# Altium footprint library PartsLib.PcbLib: 49 footprints (part 3 of 4)
Each footprint in its own frame and in the unit in brackets; x right, y up, seen from the top. Pads: shape width x height; smd on the part's side, far side on the other; paste and mask are expansions set on the pad; w line width, h text height; cw(c..) or ccw(c..) is an arc to the next point about the centre after c.
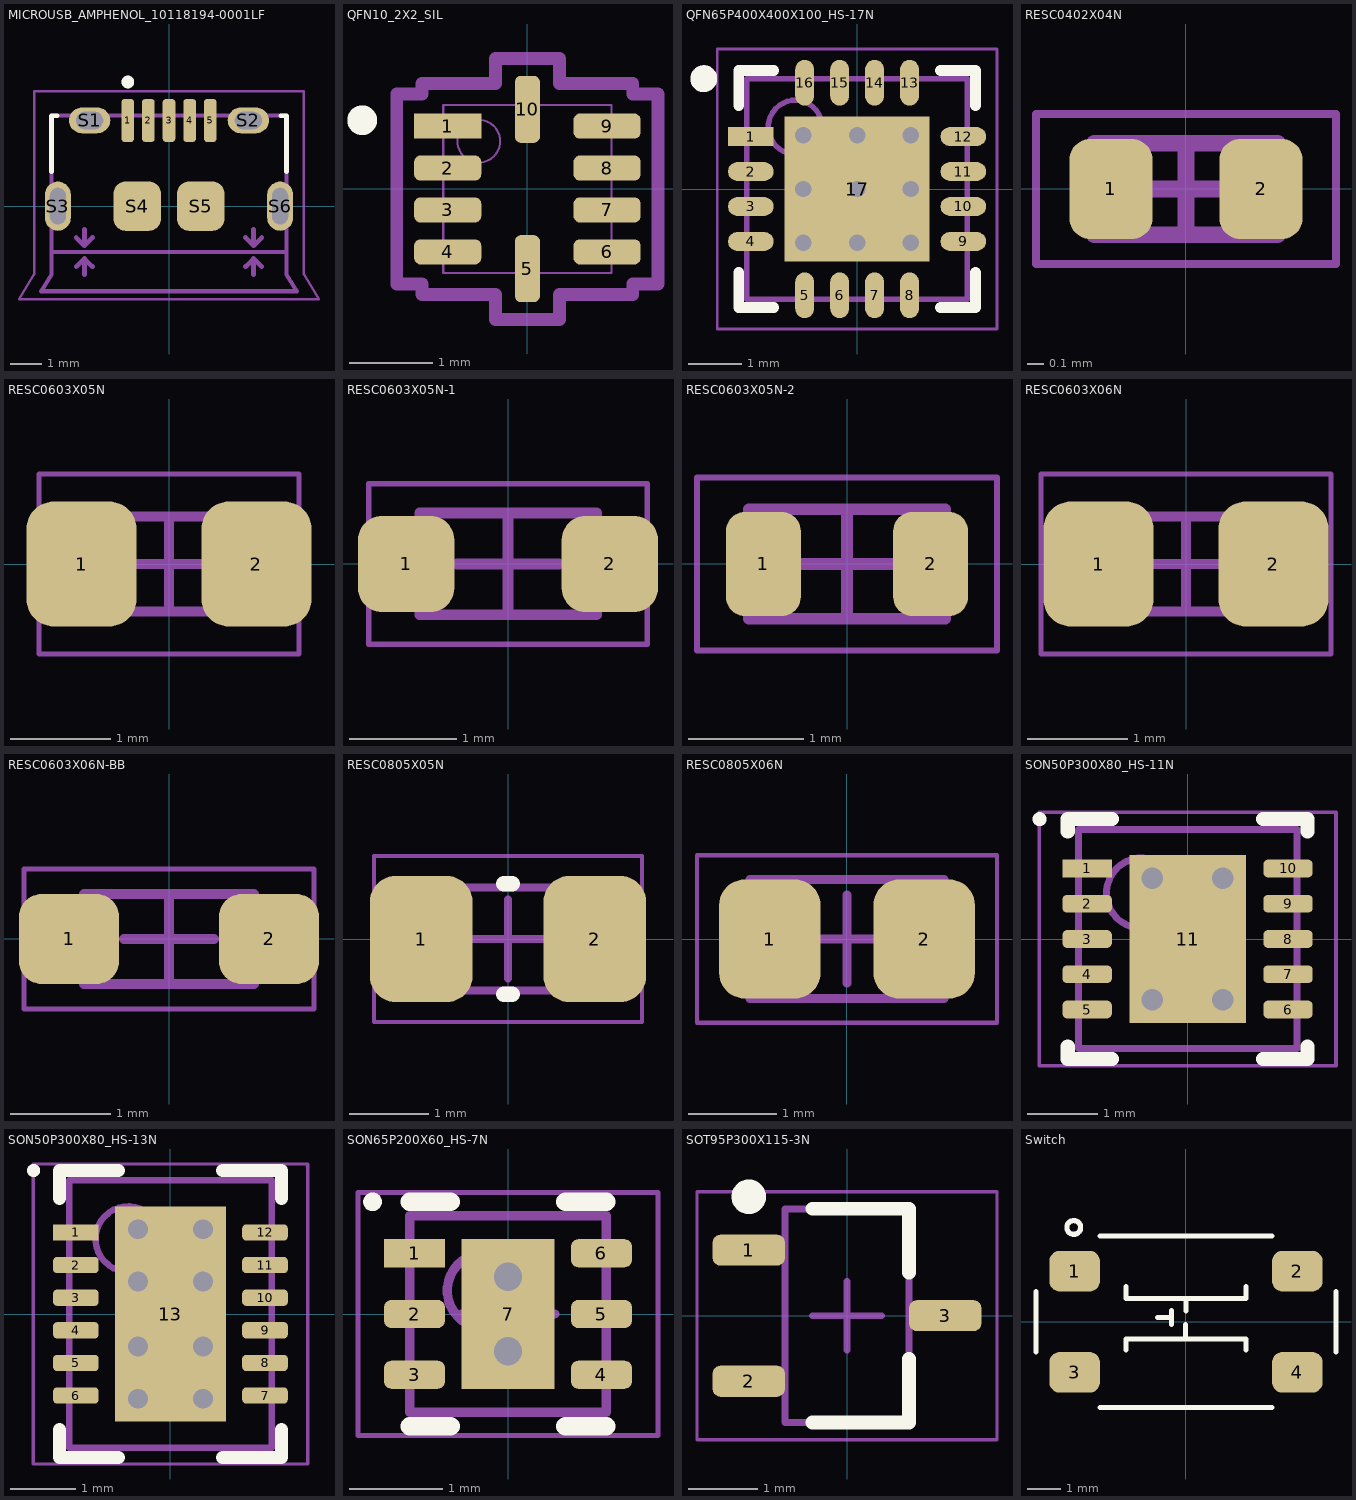
[diagram p2: the footprints below, top view; thin cyan lines are the x and y axes]

## MICROUSB_AMPHENOL_10118194-0001LF [mm]
pads (11):
  rrect50% 0.4x1.35 smd: 1(-1.3,2.7) 2(-0.65,2.7) 3(0,2.7) 4(0.65,2.7) 5(1.3,2.7)
  oval 1.3x0.813 hole 0.55 slot 0.85 at 0 deg: S1(-2.5,2.7) S2(2.5,2.7)
  oval 0.813x1.55 hole 0.5 slot 1.15 at 90 deg: S3(-3.5,0) S6(3.5,0)
  rrect50% 1.5x1.55 smd: S4(-1,0) S5(1,0)
Top Overlay:
  circle w0.2: c-1.295,3.912 r0.1
  lines w0.152: -3.7,1.095 -3.7,2.85 -3.52,2.85 ; 3.52,2.85 3.7,2.85 3.7,1.095
Top Paste:
  lines w0: -3.5,0.6 -3.5,0.77 ; 3.5,-0.77 3.5,-0.6
Mechanical 13:
  circle w0.2: c-1.295,3.912 r0.1
  lines w0.127: -3.7,-1.45 -3.7,2.85 3.7,2.85 3.7,-1.45 ; -3.7,-1.45 -3.7,-2.15 -4.025,-2.68 4.025,-2.68 3.7,-2.15 3.7,-1.45 ; -3.7,-1.45 3.7,-1.45
  lines w0.152: -2.921,-1.905 -2.667,-1.651 ; -2.921,-0.991 -2.667,-1.245 ; -2.667,-2.159 -2.667,-1.651 ; -2.667,-0.737 -2.667,-1.245 ; -2.413,-1.905 -2.667,-1.651 ; -2.413,-0.991 -2.667,-1.245 ; 2.413,-1.905 2.667,-1.651 ; 2.413,-0.991 2.667,-1.245 ; 2.667,-2.159 2.667,-1.651 ; 2.667,-0.737 2.667,-1.245 ; 2.921,-1.905 2.667,-1.651 ; 2.921,-0.991 2.667,-1.245
  text ".Designator" at -3.429,1.143 h0.69
  text "PCB END" at -1.651,-2.159 h0.5
Mechanical 15:
  lines w0.076: -4.725,-2.93 -4.25,-2.15 -4.25,3.625 4.25,3.625 4.25,-2.15 4.725,-2.93 -4.725,-2.93
3D body "10118194c.stp": height 2.75, standoff -0.53, extent -4.05,-2.692 4,2.888

## QFN10_2X2_SIL [mm]
pads (10):
  rect 0.8x0.3 smd paste+0 mask+0.064: 1(-0.95,0.75)
  rrect50% 0.8x0.3 smd paste+0 mask+0.064: 2(-0.95,0.25) 3(-0.95,-0.25) 4(-0.95,-0.75) 6(0.95,-0.75) 7(0.95,-0.25) 8(0.95,0.25) 9(0.95,0.75)
  rrect50% 0.3x0.8 smd paste+0 mask+0.064: 5(0,-0.95) 10(0,0.95)
Top Overlay:
  circle w0.254: c-1.97,0.82 r0.05
Mechanical 13:
  lines w0.025: -0.326,0.595 ccw(c-0.58,0.57) -0.326,0.589 ; -1.003,-1.003 1.003,-1.003 1.003,1.003 -1.003,1.003 -1.003,-1.003 ; -1.003,-0.902 -1.003,-0.598 -1.003,-0.902 ; -1.003,-0.402 -1.003,-0.098 -1.003,-0.402 ; -1.003,0.098 -1.003,0.402 -1.003,0.098 ; -1.003,0.598 -1.003,0.902 -1.003,0.598 ; -0.152,-1.003 0.152,-1.003 -0.152,-1.003 ; -0.152,1.003 0.152,1.003 -0.152,1.003 ; 1.003,-0.902 1.003,-0.598 1.003,-0.902 ; 1.003,-0.402 1.003,-0.098 1.003,-0.402 ; 1.003,0.098 1.003,0.402 1.003,0.098 ; 1.003,0.598 1.003,0.902 1.003,0.598
  text ".Designator" at -0.883,-0.667 h0.65
Mechanical 15:
  lines w0.152: -1.557,-1.131 -1.257,-1.131 -1.257,-1.257 -0.381,-1.257 -0.381,-1.557 0.381,-1.557 0.381,-1.257 1.257,-1.257 1.257,-1.131 1.557,-1.131 1.557,1.131 1.257,1.131 1.257,1.257 0.381,1.257 0.381,1.557 -0.381,1.557 -0.381,1.257 -1.257,1.257 -1.257,1.131 -1.557,1.131 -1.557,-1.131
3D body "QFN10_2X2_SIL.step": height 0.76, standoff 0, extent -1.003,-1.003 1.003,1.003

## QFN65P400X400X100_HS-17N [mm] "QFN, 16-Leads, Body 4.00x4.00mm, Pitch 0.65mm, Thermal Pad 2.70x2.70mm, IPC Medium Density"
height 1
pads (17):
  rect 0.85x0.35 smd mask+0.064: 1(-1.975,0.975)
  oval 0.85x0.35 smd mask+0.064: 2(-1.975,0.325) 3(-1.975,-0.325) 4(-1.975,-0.975) 9(1.975,-0.975) 10(1.975,-0.325) 11(1.975,0.325) 12(1.975,0.975)
  oval 0.35x0.85 smd mask+0.064: 5(-0.975,-1.975) 6(-0.325,-1.975) 7(0.325,-1.975) 8(0.975,-1.975) 13(0.975,1.975) 14(0.325,1.975) 15(-0.325,1.975) 16(-0.975,1.975)
  rect 2.7x2.7 smd paste-4 mask+0.064: 17(0,0)
via 1,1 diameter 0.61 hole 0.305
via 1,0 diameter 0.61 hole 0.305
via 0,-1 diameter 0.61 hole 0.305
via 0,1 diameter 0.61 hole 0.305
via -1,0 diameter 0.61 hole 0.305
via 0,0 diameter 0.61 hole 0.305
via -1,1 diameter 0.61 hole 0.305
via -1,-1 diameter 0.61 hole 0.305
via 1,-1 diameter 0.61 hole 0.305
Top Overlay:
  circle w0.25: c-2.85,2.05 r0.125
  lines w0.2: -2.2,-1.55 -2.2,-2.2 -1.55,-2.2 ; -2.2,1.55 -2.2,2.2 -1.55,2.2 ; 1.55,-2.2 2.2,-2.2 2.2,-1.55 ; 1.55,2.2 2.2,2.2 2.2,1.55
Top Paste:
  rectangle: 0.1,-1 1,-0.1
  rectangle: -1,-1 -0.1,-0.1
  rectangle: 0.1,0.1 1,1
  rectangle: -1,0.1 -0.1,1
Mechanical 13:
  circle w0.1: c-1.15,1.15 r0.5
  lines w0.1: -2.05,-2.05 2.05,-2.05 2.05,2.05 -2.05,2.05 -2.05,-2.05
  text ".Designator" at -1.93,-1.713 h0.65
Mechanical 15:
  lines w0.05: -2.6,-2.6 2.6,-2.6 2.6,2.6 -2.6,2.6 -2.6,-2.6
  lines w0.1: -0.5,0 0.5,0 ; 0,-0.5 0,0.5
3D body "QFN65P400X400X100_HS-17N.step": height 1, standoff 0, extent -2.13,-2.13 2.13,2.13

## RESC0402X04N [mm] "Chip Resistor, 2-Leads, Body 1.00x0.50mm, IPC Medium Density"
height 0.45
pads (2):
  rrect50% 0.5x0.6 smd mask+0.064: 1(-0.45,0) 2(0.45,0)
Mechanical 13:
  lines w0.1: -0.55,-0.275 -0.55,0.275 0.55,0.275 0.55,-0.275 -0.55,-0.275
  text ".Designator" at -0.43,0.062 h0.65
Mechanical 15:
  lines w0.05: -0.9,-0.45 -0.9,0.45 0.9,0.45 0.9,-0.45 -0.9,-0.45
  lines w0.1: -0.275,0 0.275,0 ; 0,-0.275 0,0.275
3D body "RESC0402X04N.step": height 0.45, standoff 0, extent -0.55,-0.275 0.55,0.275

## RESC0603X05N [mm] "Chip Resistor, 2-Leads, Body 1.58x0.85mm, IPC Medium Density"
height 0.5
pads (2):
  rrect50% 1.1x1.25 smd mask+0.064: 1(-0.875,0) 2(0.875,0)
Mechanical 13:
  lines w0.1: -0.825,-0.475 -0.825,0.475 0.825,0.475 0.825,-0.475 -0.825,-0.475
  text ".Designator" at -0.705,-0.138 h0.65
Mechanical 15:
  lines w0.05: -1.3,-0.9 -1.3,0.9 1.3,0.9 1.3,-0.9 -1.3,-0.9
  lines w0.1: -0.475,0 0.475,0 ; 0,-0.475 0,0.475
3D body "RESC0603X05N.step": height 0.5, standoff 0, extent -0.825,-0.475 0.825,0.475

## RESC0603X05N-1 [mm] "Chip Resistor, 2-Leads, Body 1.58x0.85mm, IPC Medium Density"
height 0.5
pads (2):
  rrect50% 0.9x0.9 smd mask+0.064: 1(-0.95,0) 2(0.95,0)
Mechanical 13:
  lines w0.1: -0.825,-0.475 -0.825,0.475 0.825,0.475 0.825,-0.475 -0.825,-0.475
  text ".Designator" at -0.705,-0.138 h0.65
Mechanical 15:
  lines w0.05: -1.3,-0.75 -1.3,0.75 1.3,0.75 1.3,-0.75 -1.3,-0.75
  lines w0.1: -0.475,0 0.475,0 ; 0,-0.475 0,0.475
3D body "RESC0603X05N-1.step": height 0.5, standoff 0, extent -0.825,-0.475 0.825,0.475

## RESC0603X05N-2 [mm] "Chip Resistor, 2-Leads, Body 1.55x0.80mm, IPC Medium Density"
height 0.5
pads (2):
  rrect50% 0.65x0.9 smd mask+0.064: 1(-0.725,0) 2(0.725,0)
Mechanical 13:
  lines w0.1: -0.85,-0.475 0.85,-0.475 0.85,0.475 -0.85,0.475 -0.85,-0.475
  text ".Designator" at -0.73,-0.138 h0.65
Mechanical 15:
  lines w0.05: -1.3,-0.75 1.3,-0.75 1.3,0.75 -1.3,0.75 -1.3,-0.75
  lines w0.1: -0.475,0 0.475,0 ; 0,-0.475 0,0.475
3D body "RESC0603X05N-2.step": height 0.5, standoff 0, extent -0.85,-0.475 0.85,0.475

## RESC0603X06N [mm] "Chip Resistor, 2-Leads, Body 1.60x0.85mm, IPC Medium Density"
height 0.55
pads (2):
  rrect50% 1.1x1.25 smd mask+0.064: 1(-0.875,0) 2(0.875,0)
Mechanical 13:
  lines w0.1: -0.85,-0.475 0.85,-0.475 0.85,0.475 -0.85,0.475 -0.85,-0.475
  text ".Designator" at -0.73,-0.138 h0.65
Mechanical 15:
  lines w0.05: -1.45,-0.9 1.45,-0.9 1.45,0.9 -1.45,0.9 -1.45,-0.9
  lines w0.1: -0.475,0 0.475,0 ; 0,-0.475 0,0.475
3D body "RESC0603X06N.step": height 0.55, standoff 0, extent -0.85,-0.475 0.85,0.475

## RESC0603X06N-BB [mm] "Chip Resistor, 2-Leads, Body 1.60x0.80mm, IPC Medium Density"
height 0.55
pads (2):
  rrect50% 1x0.9 smd mask+0.064: 1(-1,0) 2(1,0)
Mechanical 13:
  lines w0.1: -0.85,-0.45 0.85,-0.45 0.85,0.45 -0.85,0.45 -0.85,-0.45
  text ".Designator" at -0.73,-0.113 h0.65
Mechanical 15:
  lines w0.05: -1.45,-0.7 1.45,-0.7 1.45,0.7 -1.45,0.7 -1.45,-0.7
  lines w0.1: -0.45,0 0.45,0 ; 0,-0.45 0,0.45
3D body "RESC0603X06N.step": height 0.55, standoff 0, extent -0.85,-0.45 0.85,0.45

## RESC0805X05N [mm] "Chip Resistor, 2-Leads, Body 2.05x1.20mm, IPC Medium Density"
height 0.5
pads (2):
  rrect50% 1.3x1.6 smd mask+0.064: 1(-1.1,0) 2(1.1,0)
Top Overlay:
  lines w0.2: -0.05,-0.7 0.05,-0.7 ; -0.05,0.7 0.05,0.7
Mechanical 13:
  lines w0.1: -1.1,-0.65 -1.1,0.65 1.1,0.65 1.1,-0.65 -1.1,-0.65
  text ".Designator" at -0.98,-0.313 h0.65
Mechanical 15:
  lines w0.05: -1.7,-1.05 -1.7,1.05 1.7,1.05 1.7,-1.05 -1.7,-1.05
  lines w0.1: -0.5,0 0.5,0 ; 0,-0.5 0,0.5
3D body "RESC0805X05N.step": height 0.5, standoff 0, extent -1.1,-0.65 1.1,0.65

## RESC0805X06N [mm] "Chip Resistor, 2-Leads, Body 2.00x1.25mm, IPC Medium Density"
height 0.6
pads (2):
  rrect50% 1.15x1.35 smd mask+0.064: 1(-0.875,0) 2(0.875,0)
Mechanical 13:
  lines w0.1: -1.1,-0.675 -1.1,0.675 1.1,0.675 1.1,-0.675 -1.1,-0.675
  text ".Designator" at -0.98,-0.338 h0.65
Mechanical 15:
  lines w0.05: -1.7,-0.95 -1.7,0.95 1.7,0.95 1.7,-0.95 -1.7,-0.95
  lines w0.1: -0.5,0 0.5,0 ; 0,-0.5 0,0.5
3D body "RESC0805X06N.step": height 0.6, standoff 0, extent -1.1,-0.675 1.1,0.675

## SON50P300X80_HS-11N [mm] "SON, 10-Leads, Body 3.00x3.00mm, Pitch 0.50mm, Thermal Pad 1.60x0.69mm, IPC Medium Density"
height 0.8
pads (11):
  rect 0.7x0.25 smd mask+0.064: 1(-1.425,1)
  rrect50% 0.7x0.25 smd mask+0.064: 2(-1.425,0.5) 3(-1.425,0) 4(-1.425,-0.5) 5(-1.425,-1) 6(1.425,-1) 7(1.425,-0.5) 8(1.425,0) 9(1.425,0.5) 10(1.425,1)
  rect 1.65x2.38 smd paste-4 mask+0.064: 11(0,0)
via -0.5,0.86 diameter 0.61 hole 0.305
via 0.5,-0.86 diameter 0.61 hole 0.305
via -0.5,-0.86 diameter 0.61 hole 0.305
via 0.5,0.86 diameter 0.61 hole 0.305
Top Overlay:
  circle w0.1: c-2.1,1.7 r0.05
  lines w0.2: -1.7,-1.525 -1.7,-1.7 -1.07,-1.7 ; -1.7,1.525 -1.7,1.7 -1.07,1.7 ; 1.07,-1.7 1.7,-1.7 1.7,-1.525 ; 1.07,1.7 1.7,1.7 1.7,1.525
Top Paste:
  rectangle: -0.5,-0.86 0.5,0.86
Mechanical 13:
  circle w0.1: c-0.65,0.65 r0.5
  lines w0.1: -1.55,-1.55 1.55,-1.55 1.55,1.55 -1.55,1.55 -1.55,-1.55
  text ".Designator" at -1.43,-1.213 h0.65
Mechanical 15:
  lines w0.05: -2.105,-1.8 2.105,-1.8 2.105,1.8 -2.105,1.8 -2.105,-1.8
  lines w0.1: -0.5,0 0.5,0 ; 0,-0.5 0,0.5
3D body "SON50P300X80_HS-11N.step": height 0.8, standoff 0, extent -1.6,-1.55 1.6,1.55

## SON50P300X80_HS-13N [mm] "SON, 12-Leads, Body 4.00x3.00mm, Pitch 0.50mm, Thermal Pad 1.60x0.69mm, IPC Medium Density"
height 0.8
pads (13):
  rect 0.7x0.25 smd mask+0.064: 1(-1.45,1.25)
  rrect50% 0.7x0.25 smd mask+0.064: 2(-1.45,0.75) 3(-1.45,0.25) 4(-1.45,-0.25) 5(-1.45,-0.75) 6(-1.45,-1.25) 7(1.45,-1.25) 8(1.45,-0.75) 9(1.45,-0.25) 10(1.45,0.25) 11(1.45,0.75) 12(1.45,1.25)
  rect 1.7x3.3 smd paste-4 mask+0.064: 13(0,0)
via -0.5,0.5 diameter 0.61 hole 0.305
via 0.5,0.5 diameter 0.61 hole 0.305
via -0.5,1.3 diameter 0.61 hole 0.305
via 0.5,1.3 diameter 0.61 hole 0.305
via 0.5,-0.5 diameter 0.61 hole 0.305
via 0.5,-1.3 diameter 0.61 hole 0.305
via -0.5,-0.5 diameter 0.61 hole 0.305
via -0.5,-1.3 diameter 0.61 hole 0.305
Top Overlay:
  circle w0.1: c-2.1,2.2 r0.05
  lines w0.2: -1.7,-1.775 -1.7,-2.2 -0.795,-2.2 ; -1.7,1.775 -1.7,2.2 -0.795,2.2 ; 0.795,-2.2 1.7,-2.2 1.7,-1.775 ; 0.795,2.2 1.7,2.2 1.7,1.775
Top Paste:
  rectangle: -0.5,-1.3 0.5,-0.5
  rectangle: -0.5,-0.45 0.5,0.45
  rectangle: -0.5,0.5 0.5,1.3
Mechanical 13:
  circle w0.1: c-0.65,1.15 r0.5
  lines w0.1: -1.55,-2.05 1.55,-2.05 1.55,2.05 -1.55,2.05 -1.55,-2.05
  text ".Designator" at -1.43,-1.713 h0.65
Mechanical 15:
  lines w0.05: -2.105,-2.3 2.105,-2.3 2.105,2.3 -2.105,2.3 -2.105,-2.3
  lines w0.1: -0.5,0 0.5,0 ; 0,-0.5 0,0.5
3D body "SON50P300X80_HS-13N.step": height 0.8, standoff 0, extent -1.6,-2.05 1.6,2.05

## SON65P200X60_HS-7N [mm] "SON, 6-Leads, Body 2.00x2.00mm, Pitch 0.65mm, Thermal Pad 1.60x0.63mm, IPC Medium Density"
height 0.6
pads (7):
  rect 0.65x0.3 smd mask+0.064: 1(-1,0.65)
  rrect50% 0.65x0.3 smd mask+0.064: 2(-1,0) 3(-1,-0.65) 4(1,-0.65) 5(1,0) 6(1,0.65)
  rect 1x1.6 smd paste-1 mask+0.064: 7(0,0)
via 0,-0.4 diameter 0.61 hole 0.305
via 0,0.4 diameter 0.61 hole 0.305
Top Overlay:
  circle w0.1: c-1.45,1.2 r0.05
  lines w0.2: -1.05,-1.2 -0.615,-1.2 ; -1.05,1.2 -0.615,1.2 ; 0.615,-1.2 1.05,-1.2 ; 0.615,1.2 1.05,1.2
Top Paste:
  rectangle: -0.5,0.049 0.5,0.801
  rectangle: -0.5,-0.8 0.5,-0.05
Mechanical 13:
  circle w0.1: c-0.25,0.25 r0.4
  lines w0.1: -1.05,-1.05 1.05,-1.05 1.05,1.05 -1.05,1.05 -1.05,-1.05
  text ".Designator" at -0.93,-0.713 h0.65
Mechanical 15:
  lines w0.05: -1.605,-1.3 1.605,-1.3 1.605,1.3 -1.605,1.3 -1.605,-1.3
  lines w0.1: -0.5,0 0.5,0 ; 0,-0.5 0,0.5
3D body "SON65P200X60_HS-7N.step": height 0.6, standoff 0, extent -1.07,-1.05 1.07,1.05

## SOT95P300X115-3N [mm] "SOT23, 3-Leads, Body 3.10x3.00mm, Pitch 0.95mm, IPC Medium Density"
height 1.15
pads (3):
  rrect50% 1.05x0.45 smd mask+0.064: 1(-1.425,0.95) 2(-1.425,-0.95) 3(1.425,0)
Top Overlay:
  circle w0.25: c-1.425,1.725 r0.125
  lines w0.2: -0.5,-1.55 0.9,-1.55 0.9,-0.625 ; -0.5,1.55 0.9,1.55 0.9,0.625
Mechanical 13:
  lines w0.1: -0.9,-1.55 0.9,-1.55 0.9,1.55 -0.9,1.55 -0.9,-1.55
  text ".Designator" at -0.78,-1.213 h0.65
Mechanical 15:
  lines w0.05: -2.175,-1.8 2.175,-1.8 2.175,1.8 -2.175,1.8 -2.175,-1.8
  lines w0.1: -0.5,0 0.5,0 ; 0,-0.5 0,0.5
3D body "SOT95P300X115-3N.step": height 1.15, standoff 0, extent -1.4,-1.55 1.4,1.55

## Switch [mm]
pads (4):
  rrect50% 1.5x1.2 smd mask+0.064: 1(-3.3,1.5) 2(3.3,1.5) 3(-3.3,-1.5) 4(3.3,-1.5)
Top Overlay:
  circle w0.152: c-3.327,2.794 r0.205
  lines w0.152: -4.445,-0.889 -4.445,0.889 ; -2.54,-2.54 2.54,-2.54 ; -2.54,2.54 2.54,2.54 ; -1.778,-0.838 -1.778,-0.508 1.778,-0.508 1.778,-0.838 ; -1.778,1.041 -1.778,0.686 1.778,0.686 1.778,1.041 ; -0.838,0.127 -0.432,0.127 ; -0.432,-0.076 -0.432,0.33 ; -0.012,-0.493 -0.012,-0.087 ; 0.001,0.32 0.001,0.675 ; 4.445,-0.889 4.445,0.889
Mechanical 5:
  text ".Designator" at -3.69,-1.943 h0.65
3D body "SPST_Switch_DK.stp": height 3.7, standoff -0.1, extent -3.801,-2.29 3.699,2.21